# EAGLE library part PCA8574 (library Radio Projekt)
I2C Expander .dev
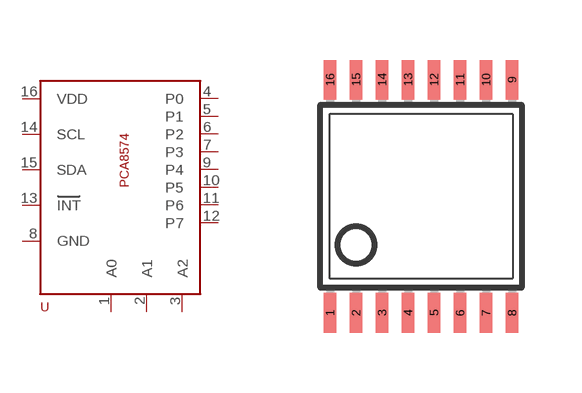
[diagram p2: symbol with the pads of PCA8574_TSSOP16; footprint PCA8574_TSSOP16]

Designator prefix -

## PCA8574  [PCA8574_TSSOP16]
1  A0
2  A1
3  A2
4  P0
5  P1
6  P2
7  P3
8  GND
9  P4
10  P5
11  P6
12  P7
13  INT
14  SCL
15  SDA
16  VDD

## Footprint PCA8574_TSSOP16 (pad centres in mm)
I2C Expander .pac
smd 0.305 x 0.991: 1 -2.275,-2.918; 2 -1.625,-2.918; 3 -0.975,-2.918; 4 -0.325,-2.918; 5 0.325,-2.918; 6 0.975,-2.918; 7 1.625,-2.918; 8 2.275,-2.918; 9 2.275,2.918; 10 1.625,2.918; 11 0.975,2.918; 12 0.325,2.918; 13 -0.325,2.918; 14 -0.975,2.918; 15 -1.625,2.918; 16 -2.275,2.918